# Altium integrated library 901-9894-RFX.IntLib: 1 symbol
Pins are listed as number, name and electrical type; pins without a type are passive.

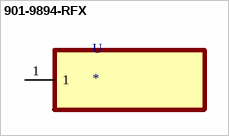
[diagram p0: symbol 901-9894-RFX]

## 901-9894-RFX
designator U
SMA Connector Plug, Male Pin 50Ohm Through Hole, Right Angle Solder; MP: 901-9894-RFX; MF: Amphenol RF; Package: None; SnapEDA_Link: https://www.snapeda.com/parts/901-9894-RFX/Amphenol%20RF%20Division/view-part/34657/?ref=snap; Price: None; Value: *; Availability: Unavailable
footprint AMPHENOL_901-9894-RFX
pins: 1